# EAGLE library part MOSFET_PCHANELL_NCHANNEL_CMND (library heck)
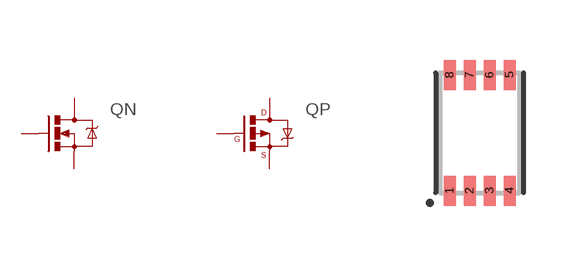
[diagram p43: symbol with the pads of SMD-8; footprint SMD-8]

Designator prefix Q; gates N=MOSFET_NCHANNEL P=MOSFET_PCHANNEL

## MOSFET_PCHANELL_NCHANNEL_CMND_SMD8  [SMD-8]
1  N:S  pas
2  N:G  pas
3  P:S  pas
4  P:G  pas
5  P:D  pas
6  P:D  pas
7  N:D  pas
8  N:D  pas

## Footprint SMD-8 (pad centres in mm)
smd 0.3 x 0.75: 1 -0.75,-1.45; 2 -0.25,-1.45; 3 0.25,-1.45; 4 0.75,-1.45; 5 0.75,1.45; 6 0.25,1.45; 7 -0.25,1.45; 8 -0.75,1.45